# Altium footprint library BOURNS_1140-390K-RC.PcbLib: 1 footprints
Each footprint in its own frame and in the unit in brackets; x right, y up, seen from the top. Pads: shape width x height; smd on the part's side, far side on the other; paste and mask are expansions set on the pad; w line width, h text height; cw(c..) or ccw(c..) is an arc to the next point about the centre after c.
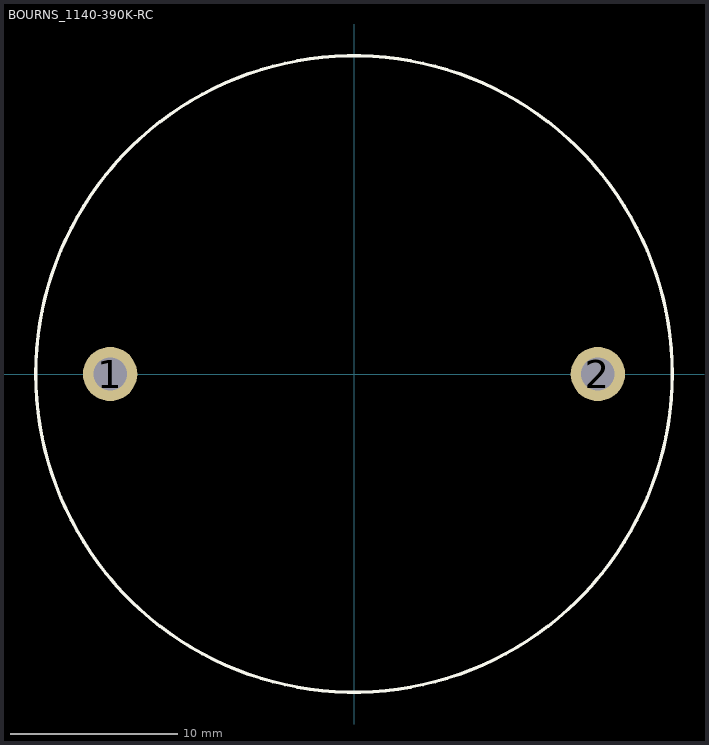
[diagram p0: the footprint, top view; thin cyan lines are the x and y axes]

## BOURNS_1140-390K-RC [mm]
pads (2):
  round 3.25 hole 2 unplated: 1(-14.6,0) 2(14.6,0)
Top Overlay:
  circle w0.2: c0,0 r19.05
3D body "BOURNS_1140-390K-RC.stp": height 26.16, standoff -12.71, extent -19.05,-19.05 19.05,19.05